# Altium footprint library FM25Q04-SO-T-G.PcbLib: 1 footprints
Each footprint in its own frame and in the unit in brackets; x right, y up, seen from the top. Pads: shape width x height; smd on the part's side, far side on the other; paste and mask are expansions set on the pad; w line width, h text height; cw(c..) or ccw(c..) is an arc to the next point about the centre after c.
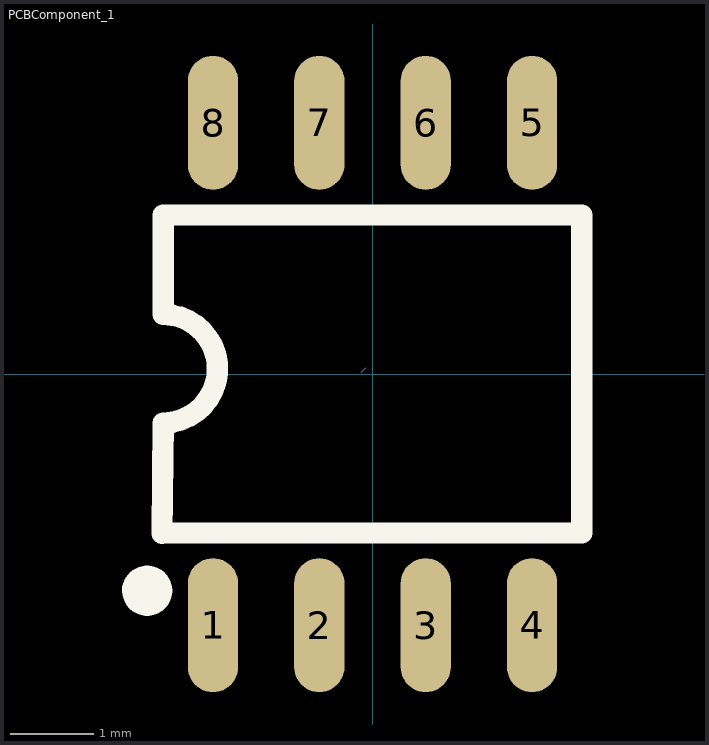
[diagram p0: the footprint, top view; thin cyan lines are the x and y axes]

## PCBComponent_1 [mm]
pads (8):
  oval 0.6x1.6 smd: 1(-1.905,-3) 2(-0.635,-3) 3(0.635,-3) 4(1.905,-3) 5(1.905,3) 6(0.635,3) 7(-0.635,3) 8(-1.905,3)
Top Overlay:
  lines w0.254: -2.515,-1.905 -2.5,-0.584 ccw(c-2.5,0.064) -2.5,0.711 ; -2.5,-1.9 2.5,-1.9 2.5,1.9 -2.5,1.9 -2.5,0.711
  lines w0.3: -2.692,-2.438 ccw(c-2.691,-2.588) -2.69,-2.438
Mechanical 15:
  lines w0.003: -0.132,0.021 -0.082,0.072
3D body "70521819.stp": height 1.64, standoff 0.03, extent -2.5,-3.1 2.5,3.1